# Altium schematic symbol library model_satellite.SchLib: 23 symbols
Pins are listed as number, name and electrical type; pins without a type are passive.

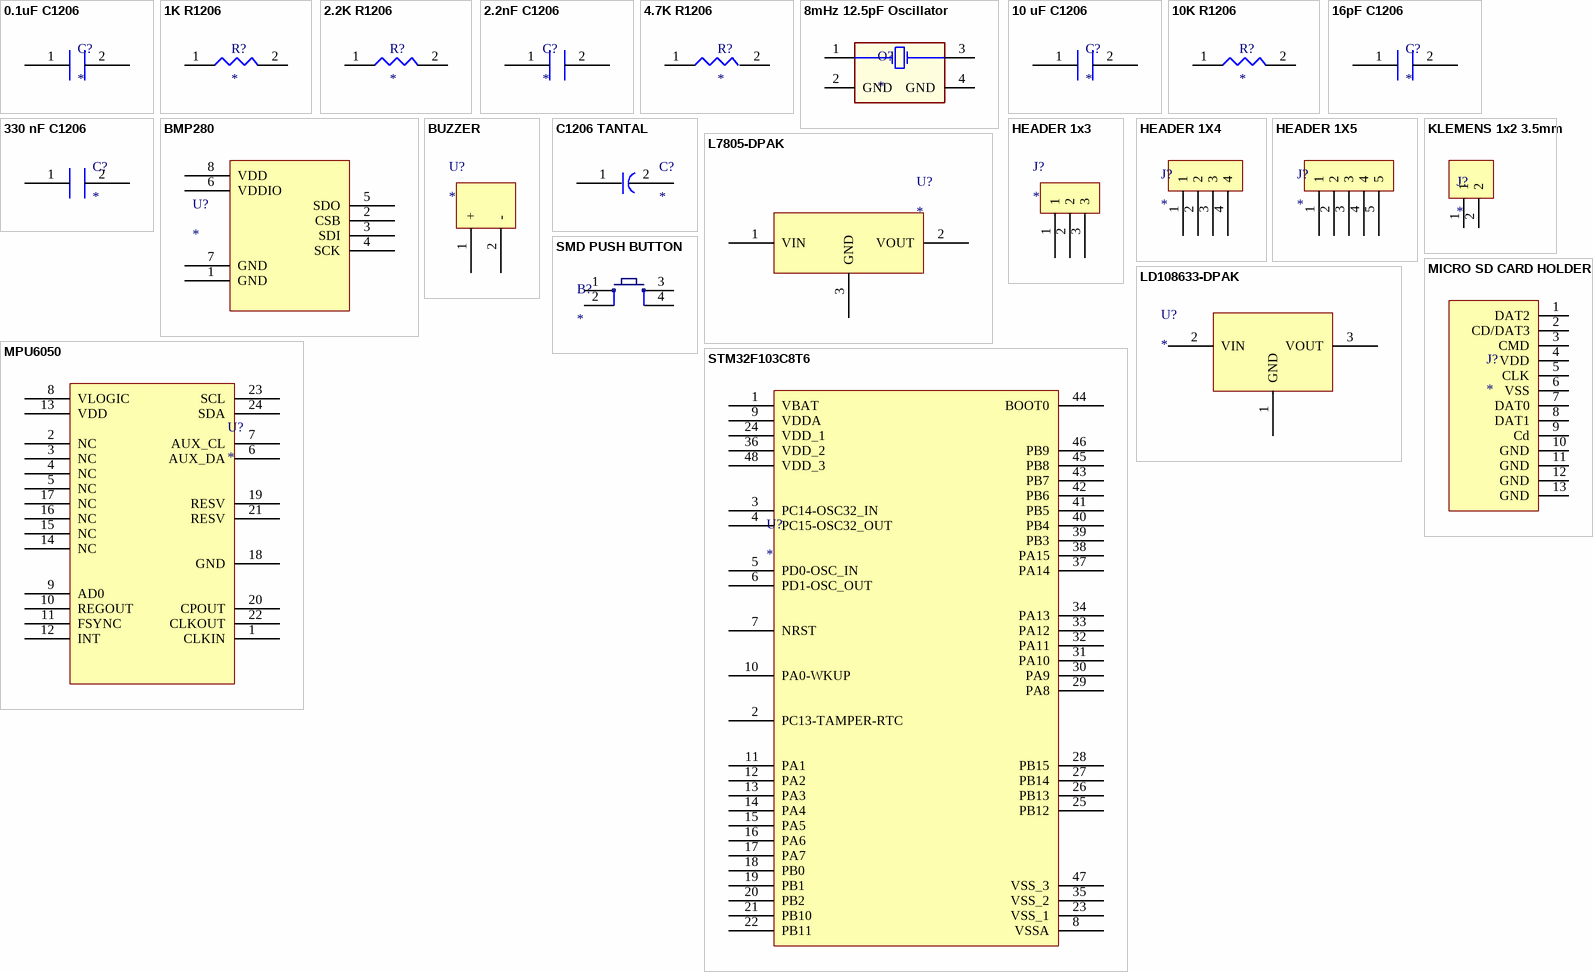
[diagram p0: symbols 0.1uF C1206 to STM32F103C8T6]

## 0.1uF C1206
designator C?
footprint C1206
pins: 1 9, 2 8

## 1K R1206
designator R?
footprint R1206
pins: 1, 2

## 2.2K R1206
designator R?
footprint R1206
pins: 1, 2

## 2.2nF C1206
designator C?
footprint C1206
pins: 1 9, 2 8

## 4.7K R1206
designator R?
footprint R1206
pins: 1, 2

## 8mHz 12.5pF Oscillator
designator O?
footprint 8mHz Oscillator
pins: 1 (power) "Regulator Input Supply. Bypass IN to GND with a 1 uF or greater capacitor.", 2 GND (power) "Ground.", 3 "Enable Input. Drive EN high to turn on the regulator; drive it low to turn off the regulator. For automatic startup, connect EN to IN.", 4 GND "Connect a 1 nF or greater capacitor (10 nF is recommended) between BYP and GND to reduce the internal reference noise for low noise applications."

## 10 uF C1206
designator C?
footprint C1206
pins: 1 9, 2 8

## 10K R1206
designator R?
footprint R1206
pins: 1, 2

## 16pF C1206
designator C?
footprint C1206
pins: 1 9, 2 8

## 330 nF C1206
designator C?
footprint C1206
pins: 1 9, 2 8

## BMP280
designator U?
BMP280 DIGITAL PRESSURE SENSOR
footprint BMP280
pins: 1 GND, 2 CSB, 3 SDI, 4 SCK, 5 SDO, 6 VDDIO, 7 GND, 8 VDD

## BUZZER
designator U?
Buzzer 5V 5mm
footprint BUZZER
pins: 1 +, 2 -

## C1206 TANTAL
designator C?
footprint C1206-TANTAL
pins: 1 9, 2 8

## HEADER 1x3
designator J?
1x3 2.54mm Header
footprint Header 2.54 1x3
pins: 1, 2, 3

## HEADER 1X4
designator J?
2.54mm 1x4 Header
footprint Header 2.54 1x4
pins: 1, 2, 3, 4

## HEADER 1X5
designator J?
2.54mm 1x5 Header
footprint Header 2.54 1x5
pins: 1, 2, 3, 4, 5

## KLEMENS 1x2 3.5mm
designator J?
1x2 3.5mm Klemens
footprint Klemens 1X2 3.5mm
pins: 1, 2

## L7805-DPAK
designator U?
L7805 5V REGULATOR
footprint L7805 (D-PAK, 3-Pads, Body 6,40x6,56mm (max), IPC Medium Density)
pins: 1 VIN, 2 VOUT, 3 GND

## LD108633-DPAK
designator U?
LD108633 3.3V REGULATOR
footprint L7805 (D-PAK, 3-Pads, Body 6,40x6,56mm (max), IPC Medium Density)
pins: 1 GND, 2 VIN, 3  VOUT

## MICRO SD CARD HOLDER
designator J?
Micro SD Card Holder
footprint MICRO_SDCARD
pins: 1 DAT2, 2 CD/DAT3, 3 CMD, 4 VDD, 5 CLK, 6 VSS, 7 DAT0, 8 DAT1, 9 Cd, 10 GND, 11 GND, 12 GND, 13 GND

## MPU6050
designator U?
MPU6050 GYRO SENSOR
footprint QFN50P400X400X95_HS-25N (QFN, 24-Leads, Body 4,00x4,00mm, Pitch 0,50mm, Thermal Pad 2,65x2,65mm, IPC Medium Density)
pins: 1 CLKIN, 2 NC, 3 NC, 4 NC, 5 NC, 6 AUX_DA, 7 AUX_CL, 8 VLOGIC, 9 AD0, 10 REGOUT, 11 FSYNC, 12 INT, 13 VDD, 14 NC, 15 NC, 16 NC, 17 NC, 18 GND, 19 RESV, 20 CPOUT, 21 RESV, 22 CLKOUT, 23 SCL, 24 SDA

## SMD PUSH BUTTON
designator B?
Satın Alma Linki: https://urun.n11.com/diger/mini-pushbutton-switch-smd-P227461537?gclid=Cj0KCQjwkoDmBRCcARIsAG3xzl8Y_-jeD7HocNM6lvuZ_rVp83568XPGtNzlPwXWLph8oCRqo0yh87UaApZYEALw_wcB&gclsrc=aw.ds
footprint SMD PUSH BUTTON
pins: 1, 2, 3, 4

## STM32F103C8T6
designator U?
STM32F103C876 MICROCONTROLLER
footprint LQFP48-STM32F103CB6T (TSQFP, 48-Leads, Body 7,00x7,00mm, Pitch 0,50mm, IPC Medium Density)
pins: 1 VBAT, 2 PC13-TAMPER-RTC, 3 PC14-OSC32_IN, 4 PC15-OSC32_OUT, 5 PD0-OSC_IN, 6 PD1-OSC_OUT, 7 NRST, 8 VSSA, 9 VDDA, 10 PA0-WKUP, 11 PA1, 12 PA2, 13 PA3, 14 PA4, 15 PA5, 16 PA6, 17 PA7, 18 PB0, 19 PB1, 20 PB2, 21 PB10, 22 PB11, 23 VSS_1, 24 VDD_1, 25 PB12, 26 PB13, 27 PB14, 28 PB15, 29 PA8, 30 PA9, 31 PA10, 32 PA11, 33 PA12, 34 PA13, 35 VSS_2, 36 VDD_2, 37 PA14, 38 PA15, 39 PB3, 40 PB4, 41 PB5, 42 PB6, 43 PB7, 44 BOOT0, 45 PB8, 46 PB9, 47 VSS_3, 48 VDD_3